# Altium integrated library TI Data Converters Analog to Digital Converter.IntLib: 2197 symbols (part 14 of 168)
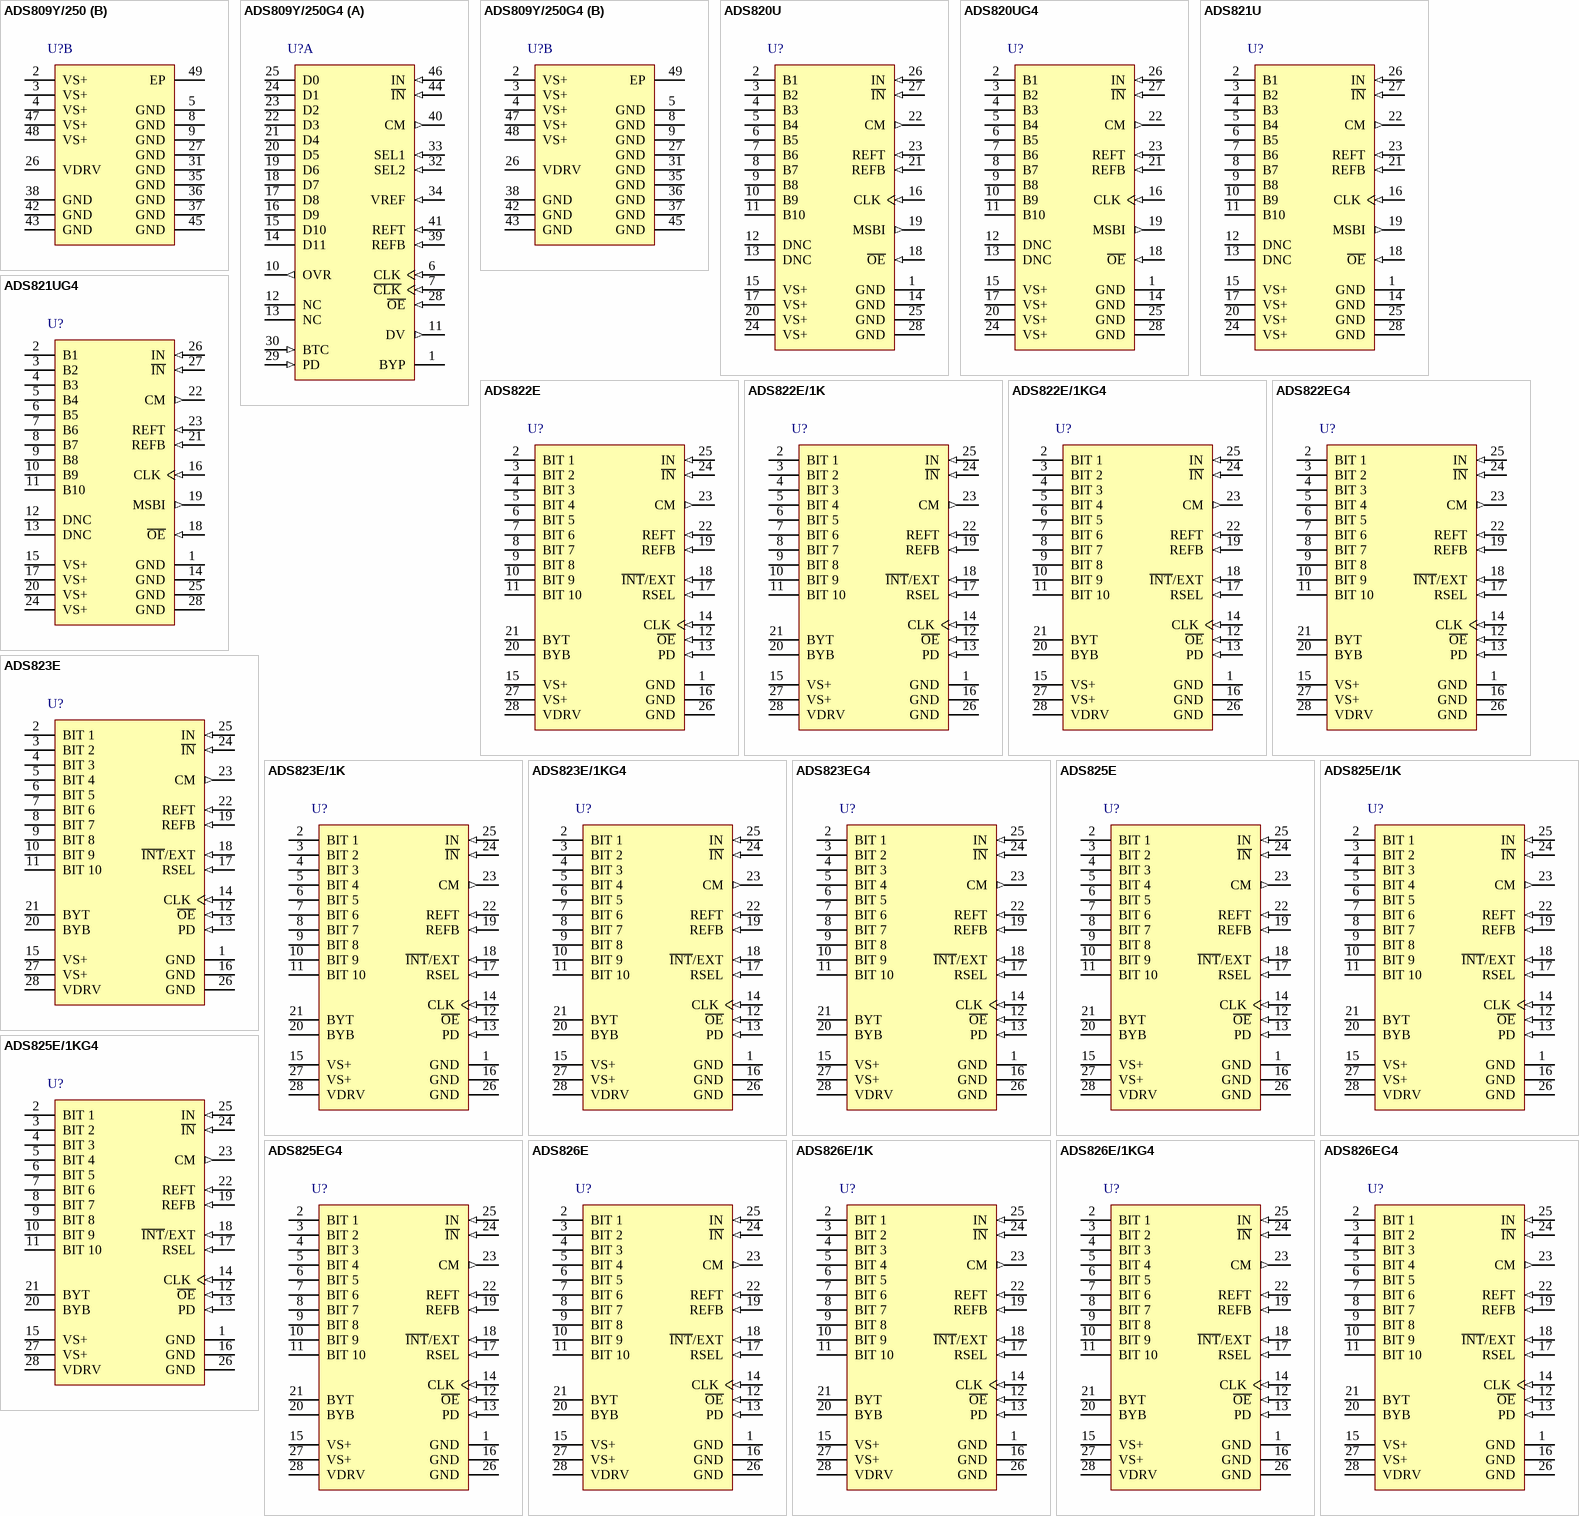
[diagram p139: symbols ADS809Y/250 to ADS826EG4]

## ADS823E/1K
designator U?
10-Bit, 60 MSPS ADC Single-Ended / Differential, Internal / External Reference, Programmble Input Range with Power Down, -40 to 85 degC, 28-pin SOP (DB28), Green (RoHS & no Sb/Br); Manufacturer: Texas Instruments; PartNumber: ADS823E/1K; # Input Channels: 1; Analog Voltage AV/DD(Max)(V): 5.25; Analog Voltage AV/DD(Min)(V): 4.75; Architecture: Pipeline; Digital Supply(Max)(V): 5; Digital Supply(Min)(V): 3; ENOB(Bits): 9.5; INL(Max)(+/-LSB): 2; Interface: Parallel CMOS; Resolution(Bits): 10; Sample Rate (max)(SPS): 60M; SFDR(dB): 74; SINAD(dB): 59; SNR(dB): 60; SubFamily: High Speed ADC (>10MSPS); DatasheetVersion: SBAS070B; PackageVersion: 4040065/E, 12/2001; PackageReference: DB28; PackageDescription: 28-Pin Plastic Small Outline, Body 10.2 X 5.3 mm, Pitch 0.65 mm; Supplier 1: Digi-Key; Supplier Part Number 1: 296-2912-5-ND; Supplier 2: Newark; Supplier Part Number 2: 76C7004; Supplier 3: Mouser; Supplier Part Number 3: 595-TLC2552IDGK; Eco-Plan: Green (RoHS & no Sb/Br); Mounting Technology: Surface Mount; Code_JEDEC: MO-150; ComponentLink1Description: Manufacturer URL; ComponentLink1URL: http://www.ti.com/; ComponentLink2Description: Datasheet; ComponentLink2URL: http://www.ti.com/general/docs/lit/getliterature.tsp?genericPartNumber=ADS823&fileType=pdf; ComponentLink3Description: Package Specification; ComponentLink3URL: http://www.ti.com/lit/ml/msso002e/msso002e.pdf
footprint TI-DB28_N (SOP, 28-Leads, Body 10.2x5.3mm, Pitch 0.65mm, IPC Medium Density)
footprint TI-DB28_L (SOP, 28-Leads, Body 10.2x5.3mm, Pitch 0.65mm, IPC High Density)
footprint TI-DB28_M (SOP, 28-Leads, Body 10.2x5.3mm, Pitch 0.65mm, IPC Low Density)
pins: 1 GND (power) "Ground", 2 BIT 1 (hiz) "Data Bit 1 (D9) (MSB)", 3 BIT 2 (hiz) "Data Bit 2 (D8)", 4 BIT 3 (hiz) "Data Bit 3 (D7)", 5 BIT 4 (hiz) "Data Bit 4 (D6)", 6 BIT 5 (hiz) "Data Bit 5 (D5)", 7 BIT 6 (hiz) "Data Bit 6 (D4)", 8 BIT 7 (hiz) "Data Bit 7 (D3)", 9 BIT 8 (hiz) "Data Bit 8 (D2)", 10 BIT 9 (hiz) "Data Bit 9 (D1)", 11 BIT 10 (hiz) "Data Bit 10 (D0) (LSB)", 12 ~{OE} (in) "Output Enable. HI: High Impedance State. LO: Normal Operation (Internal Pull-Down Resistor)", 13 PD (in) "Power Down: HI = Power Down; LO = Normal", 14 CLK (in) "Convert Clock Input", 15 VS+ (power) "+5V Supply", 16 GND (power) "Ground", 17 RSEL (in) "Input Range Select: HI = 2V; LO = 1V", 18 ~{INT}/EXT (in) "Reference Select: HI = External; LO = Internal", 19 REFB (in) "Bottom Reference", 20 BYB "Bottom Ladder Bypass", 21 BYT "Top Ladder Bypass", 22 REFT (in) "Top Reference", 23 CM (out) "Common-Mode Voltage Output", 24 ~{IN} (in) "Complementary Input (-)", 25 IN (in) "Analog Input (+)", 26 GND (power) "Ground", 27 VS+ (power) "+5V Supply", 28 VDRV (power) "Output Logic Driver Supply Voltage"

## ADS823E/1KG4
designator U?
10-Bit, 60 MSPS ADC Single-Ended / Differential, Internal / External Reference, Programmble Input Range with Power Down, -40 to 85 degC, 28-pin SOP (DB28), Green (RoHS & no Sb/Br); Manufacturer: Texas Instruments; PartNumber: ADS823E/1KG4; # Input Channels: 1; Analog Voltage AV/DD(Max)(V): 5.25; Analog Voltage AV/DD(Min)(V): 4.75; Architecture: Pipeline; Digital Supply(Max)(V): 5; Digital Supply(Min)(V): 3; ENOB(Bits): 9.5; INL(Max)(+/-LSB): 2; Interface: Parallel CMOS; Resolution(Bits): 10; Sample Rate (max)(SPS): 60M; SFDR(dB): 74; SINAD(dB): 59; SNR(dB): 60; SubFamily: High Speed ADC (>10MSPS); DatasheetVersion: SBAS070B; PackageVersion: 4040065/E, 12/2001; PackageReference: DB28; PackageDescription: 28-Pin Plastic Small Outline, Body 10.2 X 5.3 mm, Pitch 0.65 mm; Supplier 1: Digi-Key; Supplier Part Number 1: TLC2552IDGKG4-ND; Supplier 2: Mouser; Supplier Part Number 2: 595-TLC2552IDGKG4; Eco-Plan: Green (RoHS & no Sb/Br); Mounting Technology: Surface Mount; Code_JEDEC: MO-150; ComponentLink1Description: Manufacturer URL; ComponentLink1URL: http://www.ti.com/; ComponentLink2Description: Datasheet; ComponentLink2URL: http://www.ti.com/general/docs/lit/getliterature.tsp?genericPartNumber=ADS823&fileType=pdf; ComponentLink3Description: Package Specification; ComponentLink3URL: http://www.ti.com/lit/ml/msso002e/msso002e.pdf
footprint TI-DB28_N (SOP, 28-Leads, Body 10.2x5.3mm, Pitch 0.65mm, IPC Medium Density)
footprint TI-DB28_L (SOP, 28-Leads, Body 10.2x5.3mm, Pitch 0.65mm, IPC High Density)
footprint TI-DB28_M (SOP, 28-Leads, Body 10.2x5.3mm, Pitch 0.65mm, IPC Low Density)
pins: 1 GND (power) "Ground", 2 BIT 1 (hiz) "Data Bit 1 (D9) (MSB)", 3 BIT 2 (hiz) "Data Bit 2 (D8)", 4 BIT 3 (hiz) "Data Bit 3 (D7)", 5 BIT 4 (hiz) "Data Bit 4 (D6)", 6 BIT 5 (hiz) "Data Bit 5 (D5)", 7 BIT 6 (hiz) "Data Bit 6 (D4)", 8 BIT 7 (hiz) "Data Bit 7 (D3)", 9 BIT 8 (hiz) "Data Bit 8 (D2)", 10 BIT 9 (hiz) "Data Bit 9 (D1)", 11 BIT 10 (hiz) "Data Bit 10 (D0) (LSB)", 12 ~{OE} (in) "Output Enable. HI: High Impedance State. LO: Normal Operation (Internal Pull-Down Resistor)", 13 PD (in) "Power Down: HI = Power Down; LO = Normal", 14 CLK (in) "Convert Clock Input", 15 VS+ (power) "+5V Supply", 16 GND (power) "Ground", 17 RSEL (in) "Input Range Select: HI = 2V; LO = 1V", 18 ~{INT}/EXT (in) "Reference Select: HI = External; LO = Internal", 19 REFB (in) "Bottom Reference", 20 BYB "Bottom Ladder Bypass", 21 BYT "Top Ladder Bypass", 22 REFT (in) "Top Reference", 23 CM (out) "Common-Mode Voltage Output", 24 ~{IN} (in) "Complementary Input (-)", 25 IN (in) "Analog Input (+)", 26 GND (power) "Ground", 27 VS+ (power) "+5V Supply", 28 VDRV (power) "Output Logic Driver Supply Voltage"

## ADS823EG4
designator U?
10-Bit, 60 MSPS ADC Single-Ended / Differential, Internal / External Reference, Programmble Input Range with Power Down, -40 to 85 degC, 28-pin SOP (DB28), Green (RoHS & no Sb/Br); Manufacturer: Texas Instruments; PartNumber: ADS823EG4; # Input Channels: 1; Analog Voltage AV/DD(Max)(V): 5.25; Analog Voltage AV/DD(Min)(V): 4.75; Architecture: Pipeline; Digital Supply(Max)(V): 5; Digital Supply(Min)(V): 3; ENOB(Bits): 9.5; INL(Max)(+/-LSB): 2; Interface: Parallel CMOS; Resolution(Bits): 10; Sample Rate (max)(SPS): 60M; SFDR(dB): 74; SINAD(dB): 59; SNR(dB): 60; SubFamily: High Speed ADC (>10MSPS); DatasheetVersion: SBAS070B; PackageVersion: 4040065/E, 12/2001; PackageReference: DB28; PackageDescription: 28-Pin Plastic Small Outline, Body 10.2 X 5.3 mm, Pitch 0.65 mm; Supplier 1: Digi-Key; Supplier Part Number 1: TLC2551CDGK-ND; Supplier 2: Newark; Supplier Part Number 2: 76C6995; Supplier 3: Mouser; Supplier Part Number 3: 595-TLC2551CDGK; Eco-Plan: Green (RoHS & no Sb/Br); Mounting Technology: Surface Mount; Code_JEDEC: MO-150; ComponentLink1Description: Manufacturer URL; ComponentLink1URL: http://www.ti.com/; ComponentLink2Description: Datasheet; ComponentLink2URL: http://www.ti.com/general/docs/lit/getliterature.tsp?genericPartNumber=ADS823&fileType=pdf; ComponentLink3Description: Package Specification; ComponentLink3URL: http://www.ti.com/lit/ml/msso002e/msso002e.pdf
footprint TI-DB28_N (SOP, 28-Leads, Body 10.2x5.3mm, Pitch 0.65mm, IPC Medium Density)
footprint TI-DB28_L (SOP, 28-Leads, Body 10.2x5.3mm, Pitch 0.65mm, IPC High Density)
footprint TI-DB28_M (SOP, 28-Leads, Body 10.2x5.3mm, Pitch 0.65mm, IPC Low Density)
pins: 1 GND (power) "Ground", 2 BIT 1 (hiz) "Data Bit 1 (D9) (MSB)", 3 BIT 2 (hiz) "Data Bit 2 (D8)", 4 BIT 3 (hiz) "Data Bit 3 (D7)", 5 BIT 4 (hiz) "Data Bit 4 (D6)", 6 BIT 5 (hiz) "Data Bit 5 (D5)", 7 BIT 6 (hiz) "Data Bit 6 (D4)", 8 BIT 7 (hiz) "Data Bit 7 (D3)", 9 BIT 8 (hiz) "Data Bit 8 (D2)", 10 BIT 9 (hiz) "Data Bit 9 (D1)", 11 BIT 10 (hiz) "Data Bit 10 (D0) (LSB)", 12 ~{OE} (in) "Output Enable. HI: High Impedance State. LO: Normal Operation (Internal Pull-Down Resistor)", 13 PD (in) "Power Down: HI = Power Down; LO = Normal", 14 CLK (in) "Convert Clock Input", 15 VS+ (power) "+5V Supply", 16 GND (power) "Ground", 17 RSEL (in) "Input Range Select: HI = 2V; LO = 1V", 18 ~{INT}/EXT (in) "Reference Select: HI = External; LO = Internal", 19 REFB (in) "Bottom Reference", 20 BYB "Bottom Ladder Bypass", 21 BYT "Top Ladder Bypass", 22 REFT (in) "Top Reference", 23 CM (out) "Common-Mode Voltage Output", 24 ~{IN} (in) "Complementary Input (-)", 25 IN (in) "Analog Input (+)", 26 GND (power) "Ground", 27 VS+ (power) "+5V Supply", 28 VDRV (power) "Output Logic Driver Supply Voltage"

## ADS825E
designator U?
10-Bit, 40 MSPS ADC Single-Ended / Differential Input, Internal / External Reference with Power Down Option, -40 to 85 degC, 28-pin SOP (DB28), Green (RoHS & no Sb/Br); Manufacturer: Texas Instruments; PartNumber: ADS825E; # Input Channels: 1; Analog Voltage AV/DD(Max)(V): 5.25; Analog Voltage AV/DD(Min)(V): 4.75; Architecture: Pipeline; Digital Supply(Max)(V): 5; Digital Supply(Min)(V): 3; ENOB(Bits): 9.5; INL(Max)(+/-LSB): 2; Interface: Parallel CMOS; Resolution(Bits): 10; Sample Rate (max)(SPS): 40M; SFDR(dB): 65; SINAD(dB): 59; SNR(dB): 60; SubFamily: High Speed ADC (>10MSPS); DatasheetVersion: SBAS069B; PackageVersion: 4040065/E, 12/2001; PackageReference: DB28; PackageDescription: 28-Pin Plastic Small Outline, Body 10.2 X 5.3 mm, Pitch 0.65 mm; Supplier 1: Digi-Key; Supplier Part Number 1: TLC2551CDGKG4-ND; Supplier 2: Mouser; Supplier Part Number 2: 595-TLC2551CDGKG4; Eco-Plan: Green (RoHS & no Sb/Br); Mounting Technology: Surface Mount; Code_JEDEC: MO-150; ComponentLink1Description: Manufacturer URL; ComponentLink1URL: http://www.ti.com/; ComponentLink2Description: Datasheet; ComponentLink2URL: http://www.ti.com/general/docs/lit/getliterature.tsp?genericPartNumber=ADS825&fileType=pdf; ComponentLink3Description: Package Specification; ComponentLink3URL: http://www.ti.com/lit/ml/msso002e/msso002e.pdf
footprint TI-DB28_N (SOP, 28-Leads, Body 10.2x5.3mm, Pitch 0.65mm, IPC Medium Density)
footprint TI-DB28_L (SOP, 28-Leads, Body 10.2x5.3mm, Pitch 0.65mm, IPC High Density)
footprint TI-DB28_M (SOP, 28-Leads, Body 10.2x5.3mm, Pitch 0.65mm, IPC Low Density)
pins: 1 GND (power) "Ground", 2 BIT 1 (hiz) "Data Bit 1 (D9) (MSB)", 3 BIT 2 (hiz) "Data Bit 2 (D8)", 4 BIT 3 (hiz) "Data Bit 3 (D7)", 5 BIT 4 (hiz) "Data Bit 4 (D6)", 6 BIT 5 (hiz) "Data Bit 5 (D5)", 7 BIT 6 (hiz) "Data Bit 6 (D4)", 8 BIT 7 (hiz) "Data Bit 7 (D3)", 9 BIT 8 (hiz) "Data Bit 8 (D2)", 10 BIT 9 (hiz) "Data Bit 9 (D1)", 11 BIT 10 (hiz) "Data Bit 10 (D0) (LSB)", 12 ~{OE} (in) "Output Enable. HI: High Impedance State. LO: Normal Operation (Internal Pull-Down Resistor)", 13 PD (in) "Power Down: HI = Power Down; LO = Normal", 14 CLK (in) "Convert Clock Input", 15 VS+ (power) "+5V Supply", 16 GND (power) "Ground", 17 RSEL (in) "Input Range Select: HI = 2V; LO = 1V", 18 ~{INT}/EXT (in) "Reference Select: HI = External; LO = Internal", 19 REFB (in) "Bottom Reference", 20 BYB "Bottom Ladder Bypass", 21 BYT "Top Ladder Bypass", 22 REFT (in) "Top Reference", 23 CM (out) "Common-Mode Voltage Output", 24 ~{IN} (in) "Complementary Input (-)", 25 IN (in) "Analog Input (+)", 26 GND (power) "Ground", 27 VS+ (power) "+5V Supply", 28 VDRV (power) "Output Logic Driver Supply Voltage"

## ADS825E/1K
designator U?
10-Bit, 40 MSPS ADC Single-Ended / Differential Input, Internal / External Reference with Power Down Option, -40 to 85 degC, 28-pin SOP (DB28), Green (RoHS & no Sb/Br); Manufacturer: Texas Instruments; PartNumber: ADS825E/1K; # Input Channels: 1; Analog Voltage AV/DD(Max)(V): 5.25; Analog Voltage AV/DD(Min)(V): 4.75; Architecture: Pipeline; Digital Supply(Max)(V): 5; Digital Supply(Min)(V): 3; ENOB(Bits): 9.5; INL(Max)(+/-LSB): 2; Interface: Parallel CMOS; Resolution(Bits): 10; Sample Rate (max)(SPS): 40M; SFDR(dB): 65; SINAD(dB): 59; SNR(dB): 60; SubFamily: High Speed ADC (>10MSPS); DatasheetVersion: SBAS069B; PackageVersion: 4040065/E, 12/2001; PackageReference: DB28; PackageDescription: 28-Pin Plastic Small Outline, Body 10.2 X 5.3 mm, Pitch 0.65 mm; Supplier 1: Digi-Key; Supplier Part Number 1: TLC2551CDGKR-ND; Supplier 2: Mouser; Supplier Part Number 2: 595-TLC2551CDGKR; Eco-Plan: Green (RoHS & no Sb/Br); Mounting Technology: Surface Mount; Code_JEDEC: MO-150; ComponentLink1Description: Manufacturer URL; ComponentLink1URL: http://www.ti.com/; ComponentLink2Description: Datasheet; ComponentLink2URL: http://www.ti.com/general/docs/lit/getliterature.tsp?genericPartNumber=ADS825&fileType=pdf; ComponentLink3Description: Package Specification; ComponentLink3URL: http://www.ti.com/lit/ml/msso002e/msso002e.pdf
footprint TI-DB28_N (SOP, 28-Leads, Body 10.2x5.3mm, Pitch 0.65mm, IPC Medium Density)
footprint TI-DB28_L (SOP, 28-Leads, Body 10.2x5.3mm, Pitch 0.65mm, IPC High Density)
footprint TI-DB28_M (SOP, 28-Leads, Body 10.2x5.3mm, Pitch 0.65mm, IPC Low Density)
pins: 1 GND (power) "Ground", 2 BIT 1 (hiz) "Data Bit 1 (D9) (MSB)", 3 BIT 2 (hiz) "Data Bit 2 (D8)", 4 BIT 3 (hiz) "Data Bit 3 (D7)", 5 BIT 4 (hiz) "Data Bit 4 (D6)", 6 BIT 5 (hiz) "Data Bit 5 (D5)", 7 BIT 6 (hiz) "Data Bit 6 (D4)", 8 BIT 7 (hiz) "Data Bit 7 (D3)", 9 BIT 8 (hiz) "Data Bit 8 (D2)", 10 BIT 9 (hiz) "Data Bit 9 (D1)", 11 BIT 10 (hiz) "Data Bit 10 (D0) (LSB)", 12 ~{OE} (in) "Output Enable. HI: High Impedance State. LO: Normal Operation (Internal Pull-Down Resistor)", 13 PD (in) "Power Down: HI = Power Down; LO = Normal", 14 CLK (in) "Convert Clock Input", 15 VS+ (power) "+5V Supply", 16 GND (power) "Ground", 17 RSEL (in) "Input Range Select: HI = 2V; LO = 1V", 18 ~{INT}/EXT (in) "Reference Select: HI = External; LO = Internal", 19 REFB (in) "Bottom Reference", 20 BYB "Bottom Ladder Bypass", 21 BYT "Top Ladder Bypass", 22 REFT (in) "Top Reference", 23 CM (out) "Common-Mode Voltage Output", 24 ~{IN} (in) "Complementary Input (-)", 25 IN (in) "Analog Input (+)", 26 GND (power) "Ground", 27 VS+ (power) "+5V Supply", 28 VDRV (power) "Output Logic Driver Supply Voltage"

## ADS825E/1KG4
designator U?
10-Bit, 40 MSPS ADC Single-Ended / Differential Input, Internal / External Reference with Power Down Option, -40 to 85 degC, 28-pin SOP (DB28), Green (RoHS & no Sb/Br); Manufacturer: Texas Instruments; PartNumber: ADS825E/1KG4; # Input Channels: 1; Analog Voltage AV/DD(Max)(V): 5.25; Analog Voltage AV/DD(Min)(V): 4.75; Architecture: Pipeline; Digital Supply(Max)(V): 5; Digital Supply(Min)(V): 3; ENOB(Bits): 9.5; INL(Max)(+/-LSB): 2; Interface: Parallel CMOS; Resolution(Bits): 10; Sample Rate (max)(SPS): 40M; SFDR(dB): 65; SINAD(dB): 59; SNR(dB): 60; SubFamily: High Speed ADC (>10MSPS); DatasheetVersion: SBAS069B; PackageVersion: 4040065/E, 12/2001; PackageReference: DB28; PackageDescription: 28-Pin Plastic Small Outline, Body 10.2 X 5.3 mm, Pitch 0.65 mm; Supplier 1: Digi-Key; Supplier Part Number 1: TLC2551CDGKRG4-ND; Supplier 2: Mouser; Supplier Part Number 2: 595-TLC2551CDGKRG4; Eco-Plan: Green (RoHS & no Sb/Br); Mounting Technology: Surface Mount; Code_JEDEC: MO-150; ComponentLink1Description: Manufacturer URL; ComponentLink1URL: http://www.ti.com/; ComponentLink2Description: Datasheet; ComponentLink2URL: http://www.ti.com/general/docs/lit/getliterature.tsp?genericPartNumber=ADS825&fileType=pdf; ComponentLink3Description: Package Specification; ComponentLink3URL: http://www.ti.com/lit/ml/msso002e/msso002e.pdf
footprint TI-DB28_N (SOP, 28-Leads, Body 10.2x5.3mm, Pitch 0.65mm, IPC Medium Density)
footprint TI-DB28_L (SOP, 28-Leads, Body 10.2x5.3mm, Pitch 0.65mm, IPC High Density)
footprint TI-DB28_M (SOP, 28-Leads, Body 10.2x5.3mm, Pitch 0.65mm, IPC Low Density)
pins: 1 GND (power) "Ground", 2 BIT 1 (hiz) "Data Bit 1 (D9) (MSB)", 3 BIT 2 (hiz) "Data Bit 2 (D8)", 4 BIT 3 (hiz) "Data Bit 3 (D7)", 5 BIT 4 (hiz) "Data Bit 4 (D6)", 6 BIT 5 (hiz) "Data Bit 5 (D5)", 7 BIT 6 (hiz) "Data Bit 6 (D4)", 8 BIT 7 (hiz) "Data Bit 7 (D3)", 9 BIT 8 (hiz) "Data Bit 8 (D2)", 10 BIT 9 (hiz) "Data Bit 9 (D1)", 11 BIT 10 (hiz) "Data Bit 10 (D0) (LSB)", 12 ~{OE} (in) "Output Enable. HI: High Impedance State. LO: Normal Operation (Internal Pull-Down Resistor)", 13 PD (in) "Power Down: HI = Power Down; LO = Normal", 14 CLK (in) "Convert Clock Input", 15 VS+ (power) "+5V Supply", 16 GND (power) "Ground", 17 RSEL (in) "Input Range Select: HI = 2V; LO = 1V", 18 ~{INT}/EXT (in) "Reference Select: HI = External; LO = Internal", 19 REFB (in) "Bottom Reference", 20 BYB "Bottom Ladder Bypass", 21 BYT "Top Ladder Bypass", 22 REFT (in) "Top Reference", 23 CM (out) "Common-Mode Voltage Output", 24 ~{IN} (in) "Complementary Input (-)", 25 IN (in) "Analog Input (+)", 26 GND (power) "Ground", 27 VS+ (power) "+5V Supply", 28 VDRV (power) "Output Logic Driver Supply Voltage"

## ADS825EG4
designator U?
10-Bit, 40 MSPS ADC Single-Ended / Differential Input, Internal / External Reference with Power Down Option, -40 to 85 degC, 28-pin SOP (DB28), Green (RoHS & no Sb/Br); Manufacturer: Texas Instruments; PartNumber: ADS825EG4; # Input Channels: 1; Analog Voltage AV/DD(Max)(V): 5.25; Analog Voltage AV/DD(Min)(V): 4.75; Architecture: Pipeline; Digital Supply(Max)(V): 5; Digital Supply(Min)(V): 3; ENOB(Bits): 9.5; INL(Max)(+/-LSB): 2; Interface: Parallel CMOS; Resolution(Bits): 10; Sample Rate (max)(SPS): 40M; SFDR(dB): 65; SINAD(dB): 59; SNR(dB): 60; SubFamily: High Speed ADC (>10MSPS); DatasheetVersion: SBAS069B; PackageVersion: 4040065/E, 12/2001; PackageReference: DB28; PackageDescription: 28-Pin Plastic Small Outline, Body 10.2 X 5.3 mm, Pitch 0.65 mm; Supplier 1: Digi-Key; Supplier Part Number 1: 296-2910-5-ND; Supplier 2: Mouser; Supplier Part Number 2: 595-TLC2551IDGK; Eco-Plan: Green (RoHS & no Sb/Br); Mounting Technology: Surface Mount; Code_JEDEC: MO-150; ComponentLink1Description: Manufacturer URL; ComponentLink1URL: http://www.ti.com/; ComponentLink2Description: Datasheet; ComponentLink2URL: http://www.ti.com/general/docs/lit/getliterature.tsp?genericPartNumber=ADS825&fileType=pdf; ComponentLink3Description: Package Specification; ComponentLink3URL: http://www.ti.com/lit/ml/msso002e/msso002e.pdf
footprint TI-DB28_N (SOP, 28-Leads, Body 10.2x5.3mm, Pitch 0.65mm, IPC Medium Density)
footprint TI-DB28_L (SOP, 28-Leads, Body 10.2x5.3mm, Pitch 0.65mm, IPC High Density)
footprint TI-DB28_M (SOP, 28-Leads, Body 10.2x5.3mm, Pitch 0.65mm, IPC Low Density)
pins: 1 GND (power) "Ground", 2 BIT 1 (hiz) "Data Bit 1 (D9) (MSB)", 3 BIT 2 (hiz) "Data Bit 2 (D8)", 4 BIT 3 (hiz) "Data Bit 3 (D7)", 5 BIT 4 (hiz) "Data Bit 4 (D6)", 6 BIT 5 (hiz) "Data Bit 5 (D5)", 7 BIT 6 (hiz) "Data Bit 6 (D4)", 8 BIT 7 (hiz) "Data Bit 7 (D3)", 9 BIT 8 (hiz) "Data Bit 8 (D2)", 10 BIT 9 (hiz) "Data Bit 9 (D1)", 11 BIT 10 (hiz) "Data Bit 10 (D0) (LSB)", 12 ~{OE} (in) "Output Enable. HI: High Impedance State. LO: Normal Operation (Internal Pull-Down Resistor)", 13 PD (in) "Power Down: HI = Power Down; LO = Normal", 14 CLK (in) "Convert Clock Input", 15 VS+ (power) "+5V Supply", 16 GND (power) "Ground", 17 RSEL (in) "Input Range Select: HI = 2V; LO = 1V", 18 ~{INT}/EXT (in) "Reference Select: HI = External; LO = Internal", 19 REFB (in) "Bottom Reference", 20 BYB "Bottom Ladder Bypass", 21 BYT "Top Ladder Bypass", 22 REFT (in) "Top Reference", 23 CM (out) "Common-Mode Voltage Output", 24 ~{IN} (in) "Complementary Input (-)", 25 IN (in) "Analog Input (+)", 26 GND (power) "Ground", 27 VS+ (power) "+5V Supply", 28 VDRV (power) "Output Logic Driver Supply Voltage"

## ADS826E
designator U?
10-Bit, 60 MSPS ADC Single-Ended / Differential, Internal / External Reference, Programable Input Range with Power Down and Compatible to ADS822/3/5/8, -40 to 85 degC, 28-pin SOP (DB28), Green (RoHS & no Sb/Br); Manufacturer: Texas Instruments; PartNumber: ADS826E; # Input Channels: 1; Analog Voltage AV/DD(Max)(V): 5.25; Analog Voltage AV/DD(Min)(V): 4.75; Architecture: Pipeline; Digital Supply(Max)(V): 5; Digital Supply(Min)(V): 3; ENOB(Bits): 9.5; INL(Max)(+/-LSB): 2; Interface: Parallel CMOS; Resolution(Bits): 10; Sample Rate (max)(SPS): 60M; SFDR(dB): 73; SINAD(dB): 58; SNR(dB): 59; SubFamily: High Speed ADC (>10MSPS); DatasheetVersion: SBAS070B; PackageVersion: 4040065/E, 12/2001; PackageReference: DB28; PackageDescription: 28-Pin Plastic Small Outline, Body 10.2 X 5.3 mm, Pitch 0.65 mm; Supplier 1: Digi-Key; Supplier Part Number 1: TLC2551IDGKG4-ND; Supplier 2: Mouser; Supplier Part Number 2: 595-TLC2551IDGKG4; Eco-Plan: Green (RoHS & no Sb/Br); Mounting Technology: Surface Mount; Code_JEDEC: MO-150; ComponentLink1Description: Manufacturer URL; ComponentLink1URL: http://www.ti.com/; ComponentLink2Description: Datasheet; ComponentLink2URL: http://www.ti.com/general/docs/lit/getliterature.tsp?genericPartNumber=ADS826&fileType=pdf; ComponentLink3Description: Package Specification; ComponentLink3URL: http://www.ti.com/lit/ml/msso002e/msso002e.pdf
footprint TI-DB28_N (SOP, 28-Leads, Body 10.2x5.3mm, Pitch 0.65mm, IPC Medium Density)
footprint TI-DB28_L (SOP, 28-Leads, Body 10.2x5.3mm, Pitch 0.65mm, IPC High Density)
footprint TI-DB28_M (SOP, 28-Leads, Body 10.2x5.3mm, Pitch 0.65mm, IPC Low Density)
pins: 1 GND (power) "Ground", 2 BIT 1 (hiz) "Data Bit 1 (D9) (MSB)", 3 BIT 2 (hiz) "Data Bit 2 (D8)", 4 BIT 3 (hiz) "Data Bit 3 (D7)", 5 BIT 4 (hiz) "Data Bit 4 (D6)", 6 BIT 5 (hiz) "Data Bit 5 (D5)", 7 BIT 6 (hiz) "Data Bit 6 (D4)", 8 BIT 7 (hiz) "Data Bit 7 (D3)", 9 BIT 8 (hiz) "Data Bit 8 (D2)", 10 BIT 9 (hiz) "Data Bit 9 (D1)", 11 BIT 10 (hiz) "Data Bit 10 (D0) (LSB)", 12 ~{OE} (in) "Output Enable. HI: High Impedance State. LO: Normal Operation (Internal Pull-Down Resistor)", 13 PD (in) "Power Down: HI = Power Down; LO = Normal", 14 CLK (in) "Convert Clock Input", 15 VS+ (power) "+5V Supply", 16 GND (power) "Ground", 17 RSEL (in) "Input Range Select: HI = 2V; LO = 1V", 18 ~{INT}/EXT (in) "Reference Select: HI = External; LO = Internal", 19 REFB (in) "Bottom Reference", 20 BYB "Bottom Ladder Bypass", 21 BYT "Top Ladder Bypass", 22 REFT (in) "Top Reference", 23 CM (out) "Common-Mode Voltage Output", 24 ~{IN} (in) "Complementary Input (-)", 25 IN (in) "Analog Input (+)", 26 GND (power) "Ground", 27 VS+ (power) "+5V Supply", 28 VDRV (power) "Output Logic Driver Supply Voltage"

## ADS826E/1K
designator U?
10-Bit, 60 MSPS ADC Single-Ended / Differential, Internal / External Reference, Programable Input Range with Power Down and Compatible to ADS822/3/5/8, -40 to 85 degC, 28-pin SOP (DB28), Green (RoHS & no Sb/Br); Manufacturer: Texas Instruments; PartNumber: ADS826E/1K; # Input Channels: 1; Analog Voltage AV/DD(Max)(V): 5.25; Analog Voltage AV/DD(Min)(V): 4.75; Architecture: Pipeline; Digital Supply(Max)(V): 5; Digital Supply(Min)(V): 3; ENOB(Bits): 9.5; INL(Max)(+/-LSB): 2; Interface: Parallel CMOS; Resolution(Bits): 10; Sample Rate (max)(SPS): 60M; SFDR(dB): 73; SINAD(dB): 58; SNR(dB): 59; SubFamily: High Speed ADC (>10MSPS); DatasheetVersion: SBAS070B; PackageVersion: 4040065/E, 12/2001; PackageReference: DB28; PackageDescription: 28-Pin Plastic Small Outline, Body 10.2 X 5.3 mm, Pitch 0.65 mm; Supplier 1: Digi-Key; Supplier Part Number 1: 296-2916-5-ND; Supplier 2: Mouser; Supplier Part Number 2: 595-TLC2555IDGK; Eco-Plan: Green (RoHS & no Sb/Br); Mounting Technology: Surface Mount; Code_JEDEC: MO-150; ComponentLink1Description: Manufacturer URL; ComponentLink1URL: http://www.ti.com/; ComponentLink2Description: Datasheet; ComponentLink2URL: http://www.ti.com/general/docs/lit/getliterature.tsp?genericPartNumber=ADS826&fileType=pdf; ComponentLink3Description: Package Specification; ComponentLink3URL: http://www.ti.com/lit/ml/msso002e/msso002e.pdf
footprint TI-DB28_N (SOP, 28-Leads, Body 10.2x5.3mm, Pitch 0.65mm, IPC Medium Density)
footprint TI-DB28_L (SOP, 28-Leads, Body 10.2x5.3mm, Pitch 0.65mm, IPC High Density)
footprint TI-DB28_M (SOP, 28-Leads, Body 10.2x5.3mm, Pitch 0.65mm, IPC Low Density)
pins: 1 GND (power) "Ground", 2 BIT 1 (hiz) "Data Bit 1 (D9) (MSB)", 3 BIT 2 (hiz) "Data Bit 2 (D8)", 4 BIT 3 (hiz) "Data Bit 3 (D7)", 5 BIT 4 (hiz) "Data Bit 4 (D6)", 6 BIT 5 (hiz) "Data Bit 5 (D5)", 7 BIT 6 (hiz) "Data Bit 6 (D4)", 8 BIT 7 (hiz) "Data Bit 7 (D3)", 9 BIT 8 (hiz) "Data Bit 8 (D2)", 10 BIT 9 (hiz) "Data Bit 9 (D1)", 11 BIT 10 (hiz) "Data Bit 10 (D0) (LSB)", 12 ~{OE} (in) "Output Enable. HI: High Impedance State. LO: Normal Operation (Internal Pull-Down Resistor)", 13 PD (in) "Power Down: HI = Power Down; LO = Normal", 14 CLK (in) "Convert Clock Input", 15 VS+ (power) "+5V Supply", 16 GND (power) "Ground", 17 RSEL (in) "Input Range Select: HI = 2V; LO = 1V", 18 ~{INT}/EXT (in) "Reference Select: HI = External; LO = Internal", 19 REFB (in) "Bottom Reference", 20 BYB "Bottom Ladder Bypass", 21 BYT "Top Ladder Bypass", 22 REFT (in) "Top Reference", 23 CM (out) "Common-Mode Voltage Output", 24 ~{IN} (in) "Complementary Input (-)", 25 IN (in) "Analog Input (+)", 26 GND (power) "Ground", 27 VS+ (power) "+5V Supply", 28 VDRV (power) "Output Logic Driver Supply Voltage"

## ADS826E/1KG4
designator U?
10-Bit, 60 MSPS ADC Single-Ended / Differential, Internal / External Reference, Programable Input Range with Power Down and Compatible to ADS822/3/5/8, -40 to 85 degC, 28-pin SOP (DB28), Green (RoHS & no Sb/Br); Manufacturer: Texas Instruments; PartNumber: ADS826E/1KG4; # Input Channels: 1; Analog Voltage AV/DD(Max)(V): 5.25; Analog Voltage AV/DD(Min)(V): 4.75; Architecture: Pipeline; Digital Supply(Max)(V): 5; Digital Supply(Min)(V): 3; ENOB(Bits): 9.5; INL(Max)(+/-LSB): 2; Interface: Parallel CMOS; Resolution(Bits): 10; Sample Rate (max)(SPS): 60M; SFDR(dB): 73; SINAD(dB): 58; SNR(dB): 59; SubFamily: High Speed ADC (>10MSPS); DatasheetVersion: SBAS070B; PackageVersion: 4040065/E, 12/2001; PackageReference: DB28; PackageDescription: 28-Pin Plastic Small Outline, Body 10.2 X 5.3 mm, Pitch 0.65 mm; Supplier 1: Digi-Key; Supplier Part Number 1: TLC2555IDGKG4-ND; Supplier 2: Mouser; Supplier Part Number 2: 595-TLC2555IDGKG4; Eco-Plan: Green (RoHS & no Sb/Br); Mounting Technology: Surface Mount; Code_JEDEC: MO-150; ComponentLink1Description: Manufacturer URL; ComponentLink1URL: http://www.ti.com/; ComponentLink2Description: Datasheet; ComponentLink2URL: http://www.ti.com/general/docs/lit/getliterature.tsp?genericPartNumber=ADS826&fileType=pdf; ComponentLink3Description: Package Specification; ComponentLink3URL: http://www.ti.com/lit/ml/msso002e/msso002e.pdf
footprint TI-DB28_N (SOP, 28-Leads, Body 10.2x5.3mm, Pitch 0.65mm, IPC Medium Density)
footprint TI-DB28_L (SOP, 28-Leads, Body 10.2x5.3mm, Pitch 0.65mm, IPC High Density)
footprint TI-DB28_M (SOP, 28-Leads, Body 10.2x5.3mm, Pitch 0.65mm, IPC Low Density)
pins: 1 GND (power) "Ground", 2 BIT 1 (hiz) "Data Bit 1 (D9) (MSB)", 3 BIT 2 (hiz) "Data Bit 2 (D8)", 4 BIT 3 (hiz) "Data Bit 3 (D7)", 5 BIT 4 (hiz) "Data Bit 4 (D6)", 6 BIT 5 (hiz) "Data Bit 5 (D5)", 7 BIT 6 (hiz) "Data Bit 6 (D4)", 8 BIT 7 (hiz) "Data Bit 7 (D3)", 9 BIT 8 (hiz) "Data Bit 8 (D2)", 10 BIT 9 (hiz) "Data Bit 9 (D1)", 11 BIT 10 (hiz) "Data Bit 10 (D0) (LSB)", 12 ~{OE} (in) "Output Enable. HI: High Impedance State. LO: Normal Operation (Internal Pull-Down Resistor)", 13 PD (in) "Power Down: HI = Power Down; LO = Normal", 14 CLK (in) "Convert Clock Input", 15 VS+ (power) "+5V Supply", 16 GND (power) "Ground", 17 RSEL (in) "Input Range Select: HI = 2V; LO = 1V", 18 ~{INT}/EXT (in) "Reference Select: HI = External; LO = Internal", 19 REFB (in) "Bottom Reference", 20 BYB "Bottom Ladder Bypass", 21 BYT "Top Ladder Bypass", 22 REFT (in) "Top Reference", 23 CM (out) "Common-Mode Voltage Output", 24 ~{IN} (in) "Complementary Input (-)", 25 IN (in) "Analog Input (+)", 26 GND (power) "Ground", 27 VS+ (power) "+5V Supply", 28 VDRV (power) "Output Logic Driver Supply Voltage"

## ADS826EG4
designator U?
10-Bit, 60 MSPS ADC Single-Ended / Differential, Internal / External Reference, Programable Input Range with Power Down and Compatible to ADS822/3/5/8, -40 to 85 degC, 28-pin SOP (DB28), Green (RoHS & no Sb/Br); Manufacturer: Texas Instruments; PartNumber: ADS826EG4; # Input Channels: 1; Analog Voltage AV/DD(Max)(V): 5.25; Analog Voltage AV/DD(Min)(V): 4.75; Architecture: Pipeline; Digital Supply(Max)(V): 5; Digital Supply(Min)(V): 3; ENOB(Bits): 9.5; INL(Max)(+/-LSB): 2; Interface: Parallel CMOS; Resolution(Bits): 10; Sample Rate (max)(SPS): 60M; SFDR(dB): 73; SINAD(dB): 58; SNR(dB): 59; SubFamily: High Speed ADC (>10MSPS); DatasheetVersion: SBAS070B; PackageVersion: 4040065/E, 12/2001; PackageReference: DB28; PackageDescription: 28-Pin Plastic Small Outline, Body 10.2 X 5.3 mm, Pitch 0.65 mm; Supplier 1: Digi-Key; Supplier Part Number 1: 296-2200-5-ND; Supplier 2: Newark; Supplier Part Number 2: 76C8338; Supplier 3: Mouser; Supplier Part Number 3: 595-TLV2542CDGK; Eco-Plan: Green (RoHS & no Sb/Br); Mounting Technology: Surface Mount; Code_JEDEC: MO-150; ComponentLink1Description: Manufacturer URL; ComponentLink1URL: http://www.ti.com/; ComponentLink2Description: Datasheet; ComponentLink2URL: http://www.ti.com/general/docs/lit/getliterature.tsp?genericPartNumber=ADS826&fileType=pdf; ComponentLink3Description: Package Specification; ComponentLink3URL: http://www.ti.com/lit/ml/msso002e/msso002e.pdf
footprint TI-DB28_N (SOP, 28-Leads, Body 10.2x5.3mm, Pitch 0.65mm, IPC Medium Density)
footprint TI-DB28_L (SOP, 28-Leads, Body 10.2x5.3mm, Pitch 0.65mm, IPC High Density)
footprint TI-DB28_M (SOP, 28-Leads, Body 10.2x5.3mm, Pitch 0.65mm, IPC Low Density)
pins: 1 GND (power) "Ground", 2 BIT 1 (hiz) "Data Bit 1 (D9) (MSB)", 3 BIT 2 (hiz) "Data Bit 2 (D8)", 4 BIT 3 (hiz) "Data Bit 3 (D7)", 5 BIT 4 (hiz) "Data Bit 4 (D6)", 6 BIT 5 (hiz) "Data Bit 5 (D5)", 7 BIT 6 (hiz) "Data Bit 6 (D4)", 8 BIT 7 (hiz) "Data Bit 7 (D3)", 9 BIT 8 (hiz) "Data Bit 8 (D2)", 10 BIT 9 (hiz) "Data Bit 9 (D1)", 11 BIT 10 (hiz) "Data Bit 10 (D0) (LSB)", 12 ~{OE} (in) "Output Enable. HI: High Impedance State. LO: Normal Operation (Internal Pull-Down Resistor)", 13 PD (in) "Power Down: HI = Power Down; LO = Normal", 14 CLK (in) "Convert Clock Input", 15 VS+ (power) "+5V Supply", 16 GND (power) "Ground", 17 RSEL (in) "Input Range Select: HI = 2V; LO = 1V", 18 ~{INT}/EXT (in) "Reference Select: HI = External; LO = Internal", 19 REFB (in) "Bottom Reference", 20 BYB "Bottom Ladder Bypass", 21 BYT "Top Ladder Bypass", 22 REFT (in) "Top Reference", 23 CM (out) "Common-Mode Voltage Output", 24 ~{IN} (in) "Complementary Input (-)", 25 IN (in) "Analog Input (+)", 26 GND (power) "Ground", 27 VS+ (power) "+5V Supply", 28 VDRV (power) "Output Logic Driver Supply Voltage"

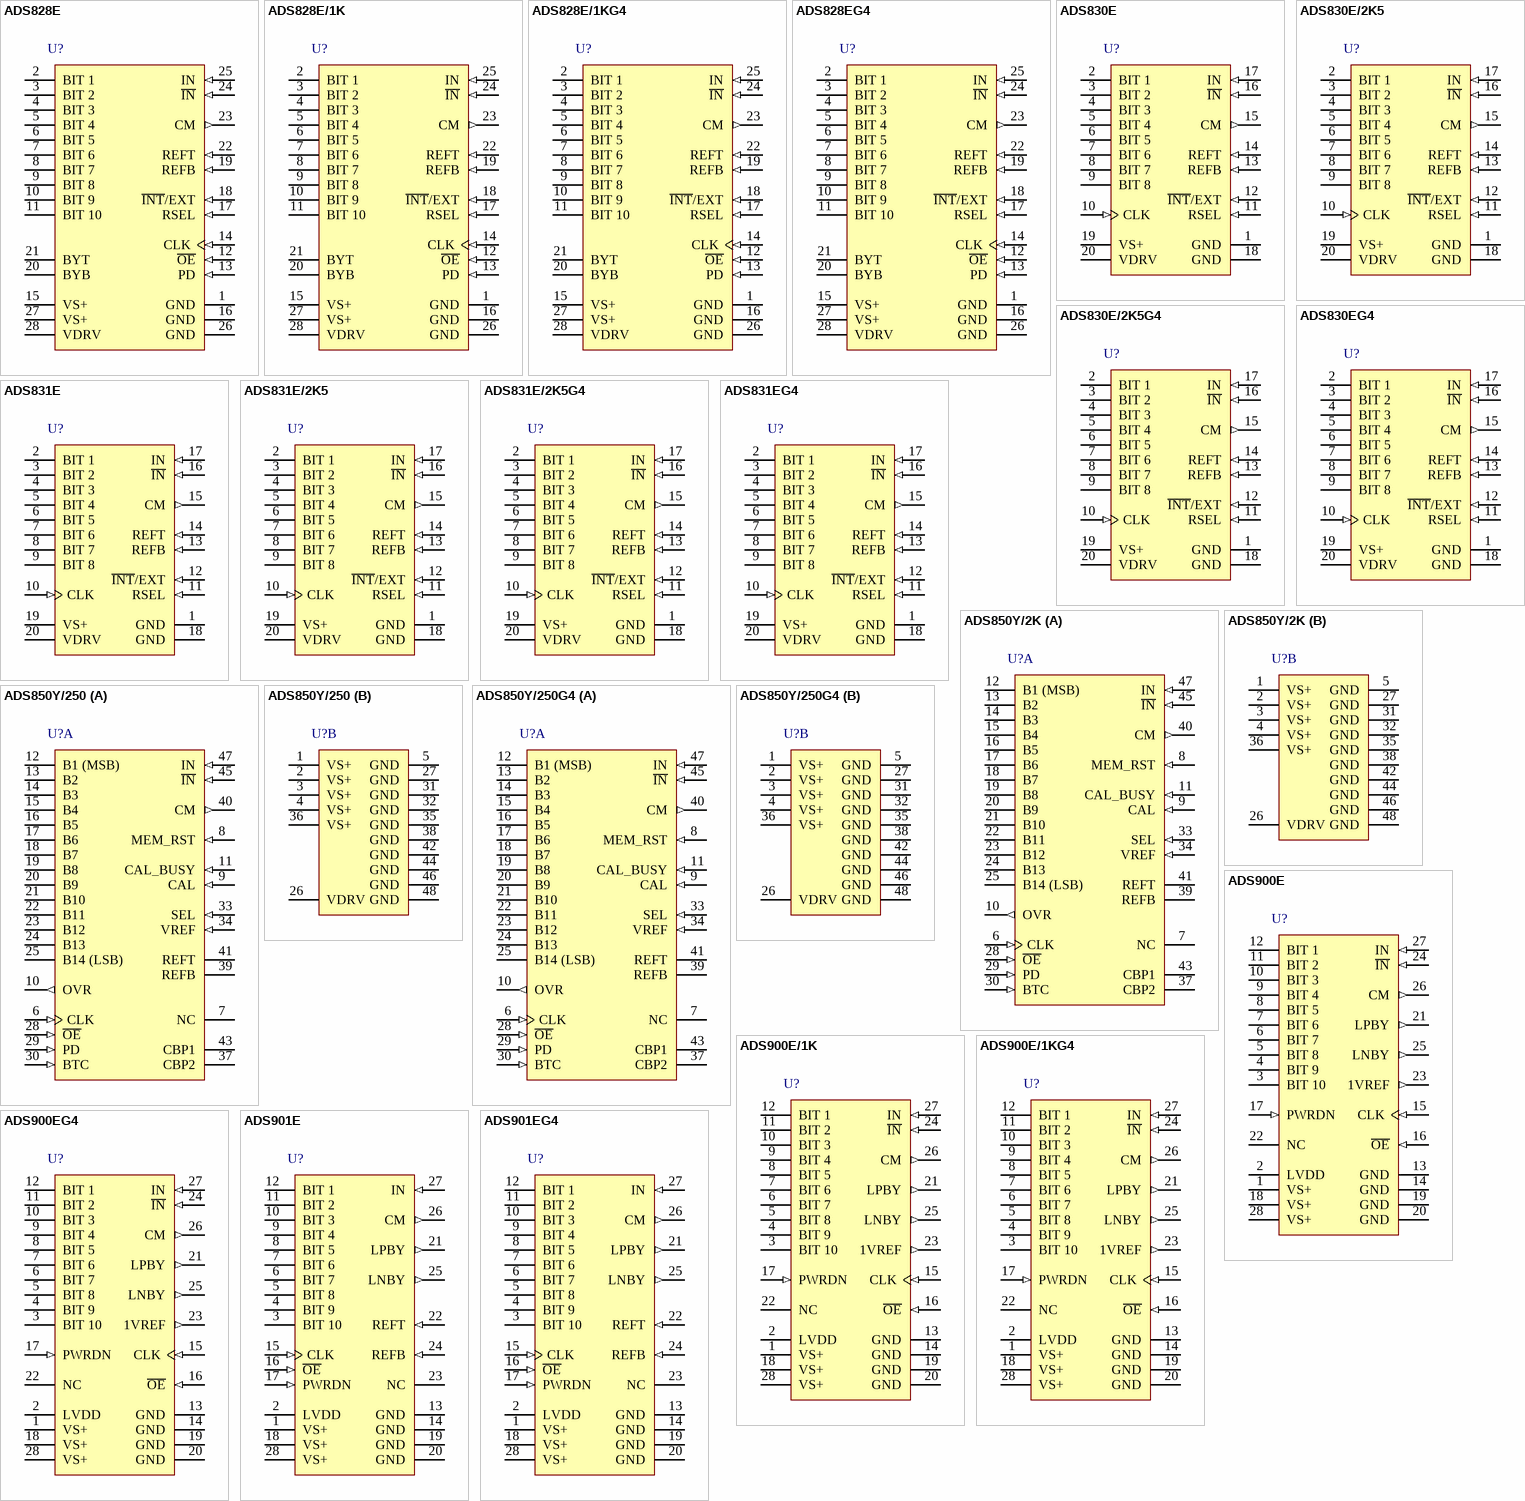
[diagram p10: symbols ADS828E to ADS901EG4]

## ADS828E
designator U?
10-Bit, 75 MSPS ADC Single-Ended / Differential, Internal / External Reference, Programable Input Range with Power Down and Compatible to ADS822/3/5/6, -40 to 85 degC, 28-pin SOP (DB28), Green (RoHS & no Sb/Br); Manufacturer: Texas Instruments; PartNumber: ADS828E; # Input Channels: 1; Analog Voltage AV/DD(Max)(V): 5.25; Analog Voltage AV/DD(Min)(V): 4.75; Architecture: Pipeline; Digital Supply(Max)(V): 5; Digital Supply(Min)(V): 3; ENOB(Bits): 9.3; Interface: Parallel CMOS; Resolution(Bits): 10; Sample Rate (max)(SPS): 75M; SFDR(dB): 68; SINAD(dB): 57; SubFamily: High Speed ADC (>10MSPS); DatasheetVersion: SBAS126A; PackageVersion: 4040065/E, 12/2001; PackageReference: DB28; PackageDescription: 28-Pin Plastic Small Outline, Body 10.2 X 5.3 mm, Pitch 0.65 mm; Supplier 1: Digi-Key; Supplier Part Number 1: TLV2542CDGKG4-ND; Supplier 2: Mouser; Supplier Part Number 2: 595-TLV2542CDGKG4; Eco-Plan: Green (RoHS & no Sb/Br); INL(Max)(+/-LSB): 3; SNR(dB): 57; Mounting Technology: Surface Mount; Code_JEDEC: MO-150; ComponentLink1Description: Manufacturer URL; ComponentLink1URL: http://www.ti.com/; ComponentLink2Description: Datasheet; ComponentLink2URL: http://www.ti.com/general/docs/lit/getliterature.tsp?genericPartNumber=ADS828&fileType=pdf; ComponentLink3Description: Package Specification; ComponentLink3URL: http://www.ti.com/lit/ml/msso002e/msso002e.pdf
footprint TI-DB28_N (SOP, 28-Leads, Body 10.2x5.3mm, Pitch 0.65mm, IPC Medium Density)
footprint TI-DB28_L (SOP, 28-Leads, Body 10.2x5.3mm, Pitch 0.65mm, IPC High Density)
footprint TI-DB28_M (SOP, 28-Leads, Body 10.2x5.3mm, Pitch 0.65mm, IPC Low Density)
pins: 1 GND (power) "Ground", 2 BIT 1 (hiz) "Data Bit 1 (D9) (MSB)", 3 BIT 2 (hiz) "Data Bit 2 (D8)", 4 BIT 3 (hiz) "Data Bit 3 (D7)", 5 BIT 4 (hiz) "Data Bit 4 (D6)", 6 BIT 5 (hiz) "Data Bit 5 (D5)", 7 BIT 6 (hiz) "Data Bit 6 (D4)", 8 BIT 7 (hiz) "Data Bit 7 (D3)", 9 BIT 8 (hiz) "Data Bit 8 (D2)", 10 BIT 9 (hiz) "Data Bit 9 (D1)", 11 BIT 10 (hiz) "Data Bit 10 (D0) (LSB)", 12 ~{OE} (in) "Output Enable. HI: High Impedance State. LO: Normal Operation (Internal Pull-Down Resistor)", 13 PD (in) "Power Down: HI = Power Down; LO = Normal", 14 CLK (in) "Convert Clock Input", 15 VS+ (power) "+5V Supply", 16 GND (power) "Ground", 17 RSEL (in) "Input Range Select: HI = 2V; LO = 1V", 18 ~{INT}/EXT (in) "Reference Select: HI = External; LO = Internal", 19 REFB (in) "Bottom Reference", 20 BYB "Bottom Ladder Bypass", 21 BYT "Top Ladder Bypass", 22 REFT (in) "Top Reference", 23 CM (out) "Common-Mode Voltage Output", 24 ~{IN} (in) "Complementary Input (-)", 25 IN (in) "Analog Input (+)", 26 GND (power) "Ground", 27 VS+ (power) "+5V Supply", 28 VDRV (power) "Output Logic Driver Supply Voltage"

## ADS828E/1K
designator U?
10-Bit, 75 MSPS ADC Single-Ended / Differential, Internal / External Reference, Programable Input Range with Power Down and Compatible to ADS822/3/5/6, -40 to 85 degC, 28-pin SOP (DB28), Green (RoHS & no Sb/Br); Manufacturer: Texas Instruments; PartNumber: ADS828E/1K; # Input Channels: 1; Analog Voltage AV/DD(Max)(V): 5.25; Analog Voltage AV/DD(Min)(V): 4.75; Architecture: Pipeline; Digital Supply(Max)(V): 5; Digital Supply(Min)(V): 3; ENOB(Bits): 9.3; Interface: Parallel CMOS; Resolution(Bits): 10; Sample Rate (max)(SPS): 75M; SFDR(dB): 68; SINAD(dB): 57; SubFamily: High Speed ADC (>10MSPS); DatasheetVersion: SBAS126A; PackageVersion: 4040065/E, 12/2001; PackageReference: DB28; PackageDescription: 28-Pin Plastic Small Outline, Body 10.2 X 5.3 mm, Pitch 0.65 mm; Supplier 1: Digi-Key; Supplier Part Number 1: TLV2542CDGKR-ND; Supplier 2: Mouser; Supplier Part Number 2: 595-TLV2542CDGKR; Eco-Plan: Green (RoHS & no Sb/Br); INL(Max)(+/-LSB): 3; SNR(dB): 57; Mounting Technology: Surface Mount; Code_JEDEC: MO-150; ComponentLink1Description: Manufacturer URL; ComponentLink1URL: http://www.ti.com/; ComponentLink2Description: Datasheet; ComponentLink2URL: http://www.ti.com/general/docs/lit/getliterature.tsp?genericPartNumber=ADS828&fileType=pdf; ComponentLink3Description: Package Specification; ComponentLink3URL: http://www.ti.com/lit/ml/msso002e/msso002e.pdf
footprint TI-DB28_N (SOP, 28-Leads, Body 10.2x5.3mm, Pitch 0.65mm, IPC Medium Density)
footprint TI-DB28_L (SOP, 28-Leads, Body 10.2x5.3mm, Pitch 0.65mm, IPC High Density)
footprint TI-DB28_M (SOP, 28-Leads, Body 10.2x5.3mm, Pitch 0.65mm, IPC Low Density)
pins: 1 GND (power) "Ground", 2 BIT 1 (hiz) "Data Bit 1 (D9) (MSB)", 3 BIT 2 (hiz) "Data Bit 2 (D8)", 4 BIT 3 (hiz) "Data Bit 3 (D7)", 5 BIT 4 (hiz) "Data Bit 4 (D6)", 6 BIT 5 (hiz) "Data Bit 5 (D5)", 7 BIT 6 (hiz) "Data Bit 6 (D4)", 8 BIT 7 (hiz) "Data Bit 7 (D3)", 9 BIT 8 (hiz) "Data Bit 8 (D2)", 10 BIT 9 (hiz) "Data Bit 9 (D1)", 11 BIT 10 (hiz) "Data Bit 10 (D0) (LSB)", 12 ~{OE} (in) "Output Enable. HI: High Impedance State. LO: Normal Operation (Internal Pull-Down Resistor)", 13 PD (in) "Power Down: HI = Power Down; LO = Normal", 14 CLK (in) "Convert Clock Input", 15 VS+ (power) "+5V Supply", 16 GND (power) "Ground", 17 RSEL (in) "Input Range Select: HI = 2V; LO = 1V", 18 ~{INT}/EXT (in) "Reference Select: HI = External; LO = Internal", 19 REFB (in) "Bottom Reference", 20 BYB "Bottom Ladder Bypass", 21 BYT "Top Ladder Bypass", 22 REFT (in) "Top Reference", 23 CM (out) "Common-Mode Voltage Output", 24 ~{IN} (in) "Complementary Input (-)", 25 IN (in) "Analog Input (+)", 26 GND (power) "Ground", 27 VS+ (power) "+5V Supply", 28 VDRV (power) "Output Logic Driver Supply Voltage"

## ADS828E/1KG4
designator U?
10-Bit, 75 MSPS ADC Single-Ended / Differential, Internal / External Reference, Programable Input Range with Power Down and Compatible to ADS822/3/5/6, -40 to 85 degC, 28-pin SOP (DB28), Green (RoHS & no Sb/Br); Manufacturer: Texas Instruments; PartNumber: ADS828E/1KG4; # Input Channels: 1; Analog Voltage AV/DD(Max)(V): 5.25; Analog Voltage AV/DD(Min)(V): 4.75; Architecture: Pipeline; Digital Supply(Max)(V): 5; Digital Supply(Min)(V): 3; ENOB(Bits): 9.3; Interface: Parallel CMOS; Resolution(Bits): 10; Sample Rate (max)(SPS): 75M; SFDR(dB): 68; SINAD(dB): 57; SubFamily: High Speed ADC (>10MSPS); DatasheetVersion: SBAS126A; PackageVersion: 4040065/E, 12/2001; PackageReference: DB28; PackageDescription: 28-Pin Plastic Small Outline, Body 10.2 X 5.3 mm, Pitch 0.65 mm; Supplier 1: Digi-Key; Supplier Part Number 1: TLV2542CDGKRG4-ND; Supplier 2: Mouser; Supplier Part Number 2: 595-TLV2542CDGKRG4; Eco-Plan: Green (RoHS & no Sb/Br); INL(Max)(+/-LSB): 3; SNR(dB): 57; Mounting Technology: Surface Mount; Code_JEDEC: MO-150; ComponentLink1Description: Manufacturer URL; ComponentLink1URL: http://www.ti.com/; ComponentLink2Description: Datasheet; ComponentLink2URL: http://www.ti.com/general/docs/lit/getliterature.tsp?genericPartNumber=ADS828&fileType=pdf; ComponentLink3Description: Package Specification; ComponentLink3URL: http://www.ti.com/lit/ml/msso002e/msso002e.pdf
footprint TI-DB28_N (SOP, 28-Leads, Body 10.2x5.3mm, Pitch 0.65mm, IPC Medium Density)
footprint TI-DB28_L (SOP, 28-Leads, Body 10.2x5.3mm, Pitch 0.65mm, IPC High Density)
footprint TI-DB28_M (SOP, 28-Leads, Body 10.2x5.3mm, Pitch 0.65mm, IPC Low Density)
pins: 1 GND (power) "Ground", 2 BIT 1 (hiz) "Data Bit 1 (D9) (MSB)", 3 BIT 2 (hiz) "Data Bit 2 (D8)", 4 BIT 3 (hiz) "Data Bit 3 (D7)", 5 BIT 4 (hiz) "Data Bit 4 (D6)", 6 BIT 5 (hiz) "Data Bit 5 (D5)", 7 BIT 6 (hiz) "Data Bit 6 (D4)", 8 BIT 7 (hiz) "Data Bit 7 (D3)", 9 BIT 8 (hiz) "Data Bit 8 (D2)", 10 BIT 9 (hiz) "Data Bit 9 (D1)", 11 BIT 10 (hiz) "Data Bit 10 (D0) (LSB)", 12 ~{OE} (in) "Output Enable. HI: High Impedance State. LO: Normal Operation (Internal Pull-Down Resistor)", 13 PD (in) "Power Down: HI = Power Down; LO = Normal", 14 CLK (in) "Convert Clock Input", 15 VS+ (power) "+5V Supply", 16 GND (power) "Ground", 17 RSEL (in) "Input Range Select: HI = 2V; LO = 1V", 18 ~{INT}/EXT (in) "Reference Select: HI = External; LO = Internal", 19 REFB (in) "Bottom Reference", 20 BYB "Bottom Ladder Bypass", 21 BYT "Top Ladder Bypass", 22 REFT (in) "Top Reference", 23 CM (out) "Common-Mode Voltage Output", 24 ~{IN} (in) "Complementary Input (-)", 25 IN (in) "Analog Input (+)", 26 GND (power) "Ground", 27 VS+ (power) "+5V Supply", 28 VDRV (power) "Output Logic Driver Supply Voltage"

## ADS828EG4
designator U?
10-Bit, 75 MSPS ADC Single-Ended / Differential, Internal / External Reference, Programable Input Range with Power Down and Compatible to ADS822/3/5/6, -40 to 85 degC, 28-pin SOP (DB28), Green (RoHS & no Sb/Br); Manufacturer: Texas Instruments; PartNumber: ADS828EG4; # Input Channels: 1; Analog Voltage AV/DD(Max)(V): 5.25; Analog Voltage AV/DD(Min)(V): 4.75; Architecture: Pipeline; Digital Supply(Max)(V): 5; Digital Supply(Min)(V): 3; ENOB(Bits): 9.3; Interface: Parallel CMOS; Resolution(Bits): 10; Sample Rate (max)(SPS): 75M; SFDR(dB): 68; SINAD(dB): 57; SubFamily: High Speed ADC (>10MSPS); DatasheetVersion: SBAS126A; PackageVersion: 4040065/E, 12/2001; PackageReference: DB28; PackageDescription: 28-Pin Plastic Small Outline, Body 10.2 X 5.3 mm, Pitch 0.65 mm; Supplier 1: Digi-Key; Supplier Part Number 1: 296-2975-5-ND; Supplier 2: Farnell; Supplier Part Number 2: 8455198; Supplier 3: Newark; Supplier Part Number 3: 38K8440; Supplier 4: Newark; Supplier Part Number 4: 76C8341; Supplier 5: Mouser; Supplier Part Number 5: 595-TLV2542IDGK; Eco-Plan: Green (RoHS & no Sb/Br); INL(Max)(+/-LSB): 3; SNR(dB): 57; Mounting Technology: Surface Mount; Code_JEDEC: MO-150; ComponentLink1Description: Manufacturer URL; ComponentLink1URL: http://www.ti.com/; ComponentLink2Description: Datasheet; ComponentLink2URL: http://www.ti.com/general/docs/lit/getliterature.tsp?genericPartNumber=ADS828&fileType=pdf; ComponentLink3Description: Package Specification; ComponentLink3URL: http://www.ti.com/lit/ml/msso002e/msso002e.pdf
footprint TI-DB28_N (SOP, 28-Leads, Body 10.2x5.3mm, Pitch 0.65mm, IPC Medium Density)
footprint TI-DB28_L (SOP, 28-Leads, Body 10.2x5.3mm, Pitch 0.65mm, IPC High Density)
footprint TI-DB28_M (SOP, 28-Leads, Body 10.2x5.3mm, Pitch 0.65mm, IPC Low Density)
pins: 1 GND (power) "Ground", 2 BIT 1 (hiz) "Data Bit 1 (D9) (MSB)", 3 BIT 2 (hiz) "Data Bit 2 (D8)", 4 BIT 3 (hiz) "Data Bit 3 (D7)", 5 BIT 4 (hiz) "Data Bit 4 (D6)", 6 BIT 5 (hiz) "Data Bit 5 (D5)", 7 BIT 6 (hiz) "Data Bit 6 (D4)", 8 BIT 7 (hiz) "Data Bit 7 (D3)", 9 BIT 8 (hiz) "Data Bit 8 (D2)", 10 BIT 9 (hiz) "Data Bit 9 (D1)", 11 BIT 10 (hiz) "Data Bit 10 (D0) (LSB)", 12 ~{OE} (in) "Output Enable. HI: High Impedance State. LO: Normal Operation (Internal Pull-Down Resistor)", 13 PD (in) "Power Down: HI = Power Down; LO = Normal", 14 CLK (in) "Convert Clock Input", 15 VS+ (power) "+5V Supply", 16 GND (power) "Ground", 17 RSEL (in) "Input Range Select: HI = 2V; LO = 1V", 18 ~{INT}/EXT (in) "Reference Select: HI = External; LO = Internal", 19 REFB (in) "Bottom Reference", 20 BYB "Bottom Ladder Bypass", 21 BYT "Top Ladder Bypass", 22 REFT (in) "Top Reference", 23 CM (out) "Common-Mode Voltage Output", 24 ~{IN} (in) "Complementary Input (-)", 25 IN (in) "Analog Input (+)", 26 GND (power) "Ground", 27 VS+ (power) "+5V Supply", 28 VDRV (power) "Output Logic Driver Supply Voltage"

## ADS830E
designator U?
8-Bit, 60 MSPS ADC Single-Ended / Differential Input, Internal / External Reference and Programmble Input Range, -40 to 85 degC, 20-pin SOP (DBQ20), Green (RoHS & no Sb/Br); Manufacturer: Texas Instruments; PartNumber: ADS830E; # Input Channels: 1; Analog Voltage AV/DD(Max)(V): 5.25; Analog Voltage AV/DD(Min)(V): 4.75; Architecture: Pipeline; Digital Supply(Max)(V): 5; Digital Supply(Min)(V): 3; ENOB(Bits): 7.7; INL(Max)(+/-LSB): 1.5; Interface: Parallel CMOS; Resolution(Bits): 8; Sample Rate (max)(SPS): 60M; SFDR(dB): 67; SINAD(dB): 48; SNR(dB): 49.5; SubFamily: High Speed ADC (>10MSPS); DatasheetVersion: SBAS086A; PackageVersion: 4073301-3/H, 10/2008; PackageReference: DBQ20; PackageDescription: 20-Pin Plastic Small Outline, Body 8.65 x 3.9 mm, Pitch 0.635 mm; Supplier 1: Digi-Key; Supplier Part Number 1: TLV2542IDGKG4-ND; Supplier 2: Mouser; Supplier Part Number 2: 595-TLV2542IDGKG4; Eco-Plan: Green (RoHS & no Sb/Br); Mounting Technology: Surface Mount; Code_JEDEC: MO-137; ComponentLink1Description: Manufacturer URL; ComponentLink1URL: http://www.ti.com/; ComponentLink2Description: Datasheet; ComponentLink2URL: http://www.ti.com/general/docs/lit/getliterature.tsp?genericPartNumber=ADS830&fileType=pdf; ComponentLink3Description: Package Specification; ComponentLink3URL: http://www.ti.com/litv/pdf/mpds210a
footprint TI-DBQ20_N (SOP, 20-Leads, Body 8.65x3.9mm, Pitch 0.635mm, IPC Medium Density)
footprint TI-DBQ20_L (SOP, 20-Leads, Body 8.65x3.9mm, Pitch 0.635mm, IPC High Density)
footprint TI-DBQ20_M (SOP, 20-Leads, Body 8.65x3.9mm, Pitch 0.635mm, IPC Low Density)
pins: 1 GND (power) "Ground", 2 BIT 1 (hiz) "Data Bit 1 (D7) (MSB)", 3 BIT 2 (hiz) "Data Bit 2 (D6)", 4 BIT 3 (hiz) "Data Bit 3 (D5)", 5 BIT 4 (hiz) "Data Bit 4 (D4)", 6 BIT 5 (hiz) "Data Bit 5 (D3)", 7 BIT 6 (hiz) "Data Bit 6 (D2)", 8 BIT 7 (hiz) "Data Bit 7 (D1)", 9 BIT 8 (hiz) "Data Bit 8 (D0) (LSB)", 10 CLK (in) "Convert Clock", 11 RSEL (in) "Input Range Select: HI = 2V; LO = 1V", 12 ~{INT}/EXT (in) "Reference Select: HI = External; LO = Internal", 13 REFB (in) "Bottom Reference", 14 REFT (in) "Top Reference", 15 CM (out) "Common-Mode Voltage Output", 16 ~{IN} (in) "Complementary Input", 17 IN (in) "Analog Input", 18 GND (power) "Ground", 19 VS+ (power) "+5V Supply", 20 VDRV (power) "Output Logic Driver Supply Voltage"

## ADS830E/2K5
designator U?
8-Bit, 60 MSPS ADC Single-Ended / Differential Input, Internal / External Reference and Programmble Input Range, -40 to 85 degC, 20-pin SOP (DBQ20), Green (RoHS & no Sb/Br); Manufacturer: Texas Instruments; PartNumber: ADS830E/2K5; # Input Channels: 1; Analog Voltage AV/DD(Max)(V): 5.25; Analog Voltage AV/DD(Min)(V): 4.75; Architecture: Pipeline; Digital Supply(Max)(V): 5; Digital Supply(Min)(V): 3; ENOB(Bits): 7.7; INL(Max)(+/-LSB): 1.5; Interface: Parallel CMOS; Resolution(Bits): 8; Sample Rate (max)(SPS): 60M; SFDR(dB): 67; SINAD(dB): 48; SNR(dB): 49.5; SubFamily: High Speed ADC (>10MSPS); DatasheetVersion: SBAS086A; PackageVersion: 4073301-3/H, 10/2008; PackageReference: DBQ20; PackageDescription: 20-Pin Plastic Small Outline, Body 8.65 x 3.9 mm, Pitch 0.635 mm; Supplier 1: Digi-Key; Supplier Part Number 1: TLV2542IDGKR-ND; Supplier 2: Mouser; Supplier Part Number 2: 595-TLV2542IDGKR; Eco-Plan: Green (RoHS & no Sb/Br); Mounting Technology: Surface Mount; Code_JEDEC: MO-137; ComponentLink1Description: Manufacturer URL; ComponentLink1URL: http://www.ti.com/; ComponentLink2Description: Datasheet; ComponentLink2URL: http://www.ti.com/general/docs/lit/getliterature.tsp?genericPartNumber=ADS830&fileType=pdf; ComponentLink3Description: Package Specification; ComponentLink3URL: http://www.ti.com/litv/pdf/mpds210a
footprint TI-DBQ20_N (SOP, 20-Leads, Body 8.65x3.9mm, Pitch 0.635mm, IPC Medium Density)
footprint TI-DBQ20_L (SOP, 20-Leads, Body 8.65x3.9mm, Pitch 0.635mm, IPC High Density)
footprint TI-DBQ20_M (SOP, 20-Leads, Body 8.65x3.9mm, Pitch 0.635mm, IPC Low Density)
pins: 1 GND (power) "Ground", 2 BIT 1 (hiz) "Data Bit 1 (D7) (MSB)", 3 BIT 2 (hiz) "Data Bit 2 (D6)", 4 BIT 3 (hiz) "Data Bit 3 (D5)", 5 BIT 4 (hiz) "Data Bit 4 (D4)", 6 BIT 5 (hiz) "Data Bit 5 (D3)", 7 BIT 6 (hiz) "Data Bit 6 (D2)", 8 BIT 7 (hiz) "Data Bit 7 (D1)", 9 BIT 8 (hiz) "Data Bit 8 (D0) (LSB)", 10 CLK (in) "Convert Clock", 11 RSEL (in) "Input Range Select: HI = 2V; LO = 1V", 12 ~{INT}/EXT (in) "Reference Select: HI = External; LO = Internal", 13 REFB (in) "Bottom Reference", 14 REFT (in) "Top Reference", 15 CM (out) "Common-Mode Voltage Output", 16 ~{IN} (in) "Complementary Input", 17 IN (in) "Analog Input", 18 GND (power) "Ground", 19 VS+ (power) "+5V Supply", 20 VDRV (power) "Output Logic Driver Supply Voltage"

## ADS830E/2K5G4
designator U?
8-Bit, 60 MSPS ADC Single-Ended / Differential Input, Internal / External Reference and Programmble Input Range, -40 to 85 degC, 20-pin SOP (DBQ20), Green (RoHS & no Sb/Br); Manufacturer: Texas Instruments; PartNumber: ADS830E/2K5G4; # Input Channels: 1; Analog Voltage AV/DD(Max)(V): 5.25; Analog Voltage AV/DD(Min)(V): 4.75; Architecture: Pipeline; Digital Supply(Max)(V): 5; Digital Supply(Min)(V): 3; ENOB(Bits): 7.7; INL(Max)(+/-LSB): 1.5; Interface: Parallel CMOS; Resolution(Bits): 8; Sample Rate (max)(SPS): 60M; SFDR(dB): 67; SINAD(dB): 48; SNR(dB): 49.5; SubFamily: High Speed ADC (>10MSPS); DatasheetVersion: SBAS086A; PackageVersion: 4073301-3/H, 10/2008; PackageReference: DBQ20; PackageDescription: 20-Pin Plastic Small Outline, Body 8.65 x 3.9 mm, Pitch 0.635 mm; Supplier 1: Digi-Key; Supplier Part Number 1: TLV2542IDGKRG4-ND; Supplier 2: Mouser; Supplier Part Number 2: 595-TLV2542IDGKRG4; Eco-Plan: Green (RoHS & no Sb/Br); Mounting Technology: Surface Mount; Code_JEDEC: MO-137; ComponentLink1Description: Manufacturer URL; ComponentLink1URL: http://www.ti.com/; ComponentLink2Description: Datasheet; ComponentLink2URL: http://www.ti.com/general/docs/lit/getliterature.tsp?genericPartNumber=ADS830&fileType=pdf; ComponentLink3Description: Package Specification; ComponentLink3URL: http://www.ti.com/litv/pdf/mpds210a
footprint TI-DBQ20_N (SOP, 20-Leads, Body 8.65x3.9mm, Pitch 0.635mm, IPC Medium Density)
footprint TI-DBQ20_L (SOP, 20-Leads, Body 8.65x3.9mm, Pitch 0.635mm, IPC High Density)
footprint TI-DBQ20_M (SOP, 20-Leads, Body 8.65x3.9mm, Pitch 0.635mm, IPC Low Density)
pins: 1 GND (power) "Ground", 2 BIT 1 (hiz) "Data Bit 1 (D7) (MSB)", 3 BIT 2 (hiz) "Data Bit 2 (D6)", 4 BIT 3 (hiz) "Data Bit 3 (D5)", 5 BIT 4 (hiz) "Data Bit 4 (D4)", 6 BIT 5 (hiz) "Data Bit 5 (D3)", 7 BIT 6 (hiz) "Data Bit 6 (D2)", 8 BIT 7 (hiz) "Data Bit 7 (D1)", 9 BIT 8 (hiz) "Data Bit 8 (D0) (LSB)", 10 CLK (in) "Convert Clock", 11 RSEL (in) "Input Range Select: HI = 2V; LO = 1V", 12 ~{INT}/EXT (in) "Reference Select: HI = External; LO = Internal", 13 REFB (in) "Bottom Reference", 14 REFT (in) "Top Reference", 15 CM (out) "Common-Mode Voltage Output", 16 ~{IN} (in) "Complementary Input", 17 IN (in) "Analog Input", 18 GND (power) "Ground", 19 VS+ (power) "+5V Supply", 20 VDRV (power) "Output Logic Driver Supply Voltage"